# EAGLE library part BMX055 (library NR_IC)
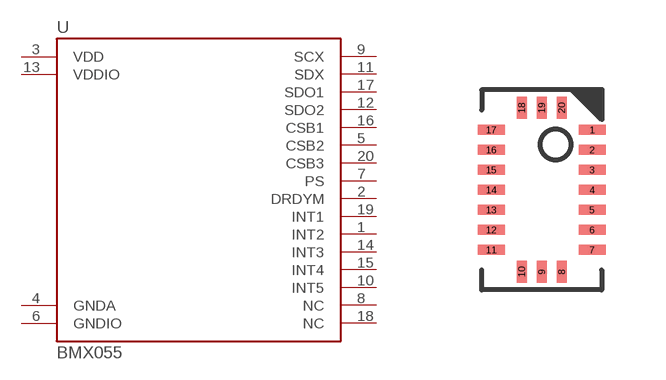
[diagram p5: symbol with the pads of LGA-20; footprint LGA-20]

Designator prefix U

## BMX055  [LGA-20]
1  INT2
2  DRDYM
3  VDD  pwr
4  GNDA  pwr
5  CSB2
6  GNDIO  pwr
7  PS
8  NC  nc
9  SCX
10  INT5
11  SDX
12  SDO2
13  VDDIO  pwr
14  INT3
15  INT4
16  CSB1
17  SDO1
18  NC  nc
19  INT1
20  CSB3

## Footprint LGA-20 (pad centres in mm)
smd 0.675 x 0.25: 1 1.262,1.5; 2 1.262,1; 3 1.262,0.5; 4 1.262,0; 5 1.262,-0.5; 6 1.262,-1; 7 1.262,-1.5; 11 -1.262,-1.5; 12 -1.262,-1; 13 -1.262,-0.5; 14 -1.262,0; 15 -1.262,0.5; 16 -1.262,1; 17 -1.262,1.5
smd 0.25 x 0.55: 8 0.5,-2.05; 9 0,-2.05; 10 -0.5,-2.05; 18 -0.5,2.05; 19 0,2.05; 20 0.5,2.05